# Altium schematic symbol library custom_components.SchLib: 21 symbols
Pins are listed as number, name and electrical type; pins without a type are passive.

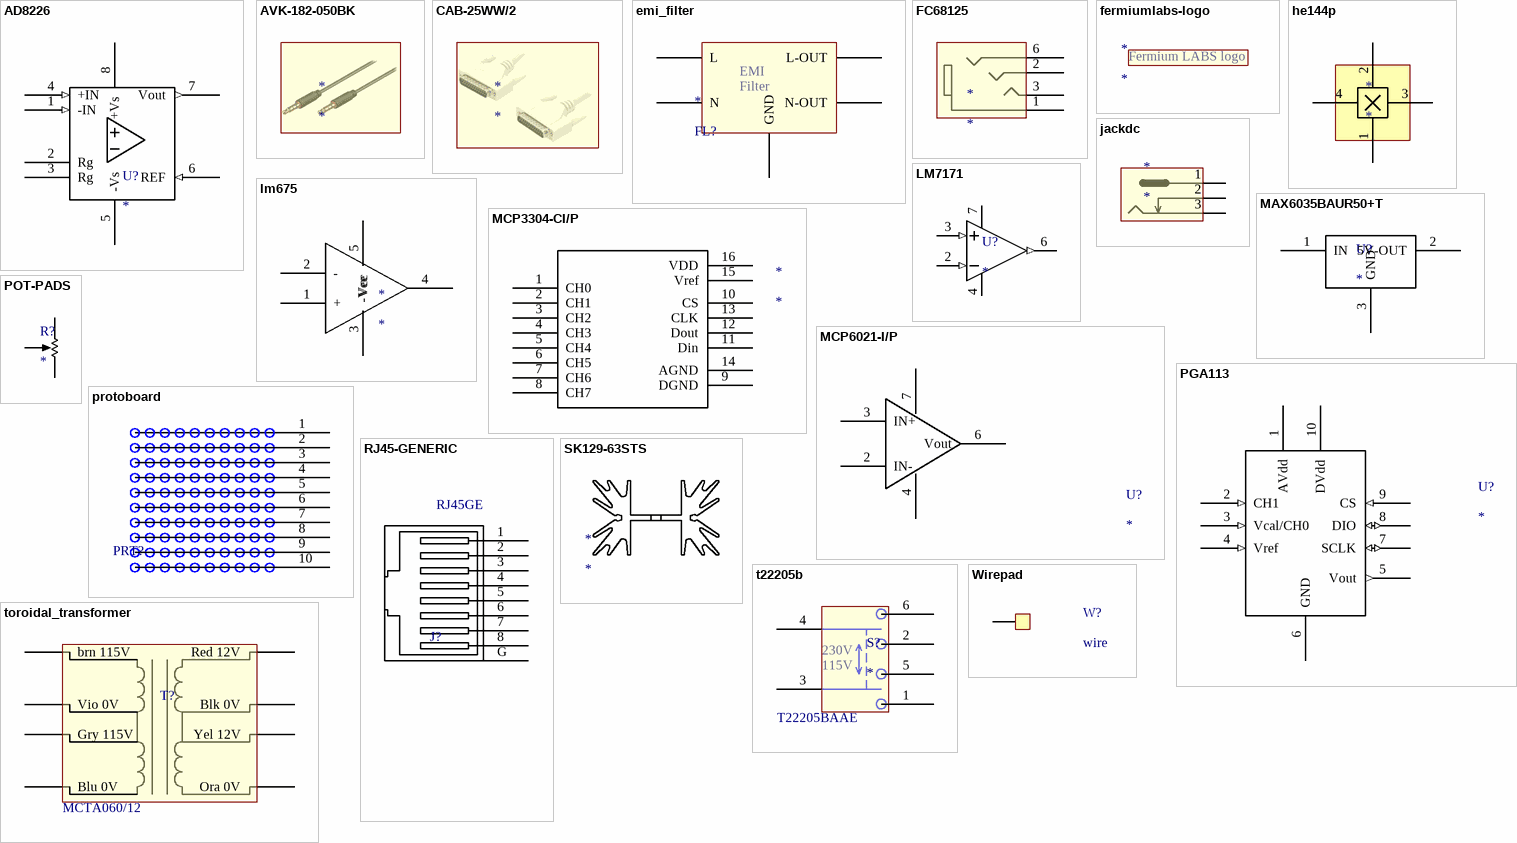
[diagram p0: symbols AD8226 to Wirepad]

## AD8226
designator U?
footprint SOIC127P600X175-8AN (SOIC, 8-Leads, Body 4.9x3.9mm, Pitch 1.27mm, IPC Medium Density)
pins: 1 -IN (in), 2 Rg, 3 Rg, 4 +IN (in), 5 -Vs (power), 6 REF (in), 7 Vout (out), 8 +Vs (power)

## AVK-182-050BK
designator *

## CAB-25WW/2
designator *

## emi_filter
designator *, comment FL?
footprint FM412-2
pins: 1 N, 2 N-OUT, 3 GND, 4 L-OUT, 5 L
text: EMI; Filter

## FC68125
designator *
footprint FC68125
pins: 1, 2, 3, 6

## fermiumlabs-logo
designator *
footprint frm-small
footprint frm-med
text: Fermium LABS logo

## he144p
designator *
footprint HE144P-buried
pins: 1, 2, 3, 4

## jackdc
designator *
footprint dc-jack
pins: 1, 2, 3

## lm675
designator *
footprint TO-220-5 (TO, Thru-Hole, Vertical, Heatsink Mounted; 5 Bent Staggered Leads; Pitch 1.7mm)
pins: 1 +, 2 -, 3 -Vee, 4 OUT, 5 Vcc

## LM7171
designator U?
footprint LM7171-dip8
footprint DIP8-300 (DIP, 8-Leads, 0.300" lead span , 0.100" lead pitch, IPC Density A)
pins: 2 -IN (in), 3 +IN (in), 4 -Vs (power), 6 OUT (out), 7 +Vs (power)

## MAX6035BAUR50+T
designator U?
footprint SOT23-3
pins: 1 IN, 2 5V-OUT, 3 GND

## MCP3304-CI/P
designator *
footprint DIP16
pins: 1 CH0, 2 CH1, 3 CH2, 4 CH3, 5 CH4, 6 CH5, 7 CH6, 8 CH7, 9 DGND, 10 CS, 11 Din, 12 Dout, 13 CLK, 14 AGND, 15 Vref, 16 VDD

## MCP6021-I/P
designator U?
footprint DIP8-300 (DIP, 8-Leads, 0.300" lead span , 0.100" lead pitch, IPC Density A)
pins: 2 IN-, 3 IN+, 4 Vss, 6 Vout, 7 Vdd

## PGA113
designator U?
footprint MSOP10
pins: 1 AVdd (power), 2 CH1 (in), 3 Vcal/CH0 (in), 4 Vref (in), 5 Vout (out), 6 GND (power), 7 SCLK (io), 8 DIO (io), 9 CS (in), 10 DVdd (power)

## POT-PADS
designator R?
footprint POT-PADS
pins: 1 CCW, 2 WIPER, 3 CW

## protoboard
designator PRT?
footprint protoboard-1inch
footprint protoboard-half-inch
pins: 1, 2, 3, 4, 5, 6, 7, 8, 9, 10

## RJ45-GENERIC
designator J?  Supplier Part Number 1: RJ45GE
Connector  RJ45 8 PIN; Manufacturer: NINIGI; Unit: pcs; SuppliedAmount: 0; MinAmount: 1; Connector: socket; Connector variant: shielded; Type of pin configuration: 8p8c; Electrical mounting: THT; Spatial orientation: angled 90°; Supplier 1: TME; Manufacturer Part Number: RJ45GE; Category: RJ connectors; Stock 1: 27637; Pricing 1: 1=0.609, 10=0.4872, 50=0.3897, 200=0.3045, 1000=0.2741 (EUR); Weight: 4.4; Multiples: 1; Connector type: RJ45; Number of pins: 8; Price Type: NET; ComponentLink1URL: http://static.tme.eu/products_pics/0/e/e/0ee711a9a85500572fe5689c7f237f48/338553.jpg; ComponentLink1Description: http://static.tme.eu/products_pics/0/e/e/0ee711a9a85500572fe5689c7f237f48/338553.jpg
footprint RJ45GE
pins: 1, 2, 3, 4, 5, 6, 7, 8, G GND

## SK129-63STS
designator *
footprint SK129-63STS

## t22205b
designator S?
Supplier 1: TME; Supplier Part Number 1: AE-T22205B
footprint T22205B
pins: 1, 2, 3, 4, 5, 6
text: 230V; 115V; T22205BAAE

## toroidal_transformer
designator T?  Manufacturer Part Number: MCTA060/12
Manufacturer: MULTICOMP; Power Rating: 60; Secondary Voltages: 2 x 12; Secondary Current Nom: 2.5; Transformer Mounting: Panel; Product Range: MCTA Series; SVHC: No SVHC (15-Jun-2015); External Diameter: 91.5; External Length / Height: 39; Secondary Power: 30VA<!--FANDB--><div class="features-and-benefits-container"><div class="features-and-benefits-description"><span class="features-benefits-value">The Multicomp MCTA series are general purpose toroidal transformers with flying leads. They feature dual primary and dual secondary windings.</span></div><div class="features-and-benefits-list"><ul class="features-and-benefits-list-list"><li class="features-and-benefits-list-item">Power rating ranges from 15VA to 1000VA</li><li class="features-and-benefits-list-item">Secondary voltages ranges from 2 x 6VAC to 2 x 55VAC</li><li class="features-and-benefits-list-item">Dual primary winding for connection in series or parallel only</li><li class="features-and-benefits-list-item">Secondary windings can be connected in series or parallel or used independently</li><li class="features-and-benefits-list-item">Double insulated primary lead-out</li><li class="features-and-benefits-list-item">Flexible lead-out can be trimmed to any length without the need for removal of enamel</li><li class="features-and-benefits-list-item">100% electrical and flash tested</li></ul></div><div class="features-and-benefits-contents"><span class="features-and-benefits-value">Transformer, Dished mounting plate, 2 foam pads, Screw, Nut and Washer.</span></div><div class="features-and-benefits-applications"><ul class="features-and-benefits-value"><li class="features-and-benefits-list-item">Industrial</li><li class="features-and-benefits-list-item">Power Management</li></ul></div></div>; Supplier 1: Farnell; RoHS: YES; Stock 1: 117; Pricing 1: 1=23.35, 10=21.21, 20=18.86, 50=14.97, 100=13.75, 500=13.32 (GBP); Current Rating: 2.5; ComponentLink1URL: http://www.farnell.com/cad/1906782.pdf; ComponentLink1Description: http://www.farnell.com/cad/1906782.pdf; ComponentLink2URL: http://www.farnell.com/datasheets/1829278.pdf; ComponentLink2Description: http://www.farnell.com/datasheets/1829278.pdf; Supplier Part Number 1: 9530428
pins: 1 brn 115V, 2 Vio 0V, 3 Gry 115V, 4 Blu 0V, 5 Ora 0V, 6 Yel 12V, 7 Blk 0V, 8 Red 12V

## Wirepad
designator W?, comment wire
footprint wirepad
pins: 1